# Altium footprint library BM04BGVHSTBLFSN.PcbLib: 1 footprints
Each footprint in its own frame and in the unit in brackets; x right, y up, seen from the top. Pads: shape width x height; smd on the part's side, far side on the other; paste and mask are expansions set on the pad; w line width, h text height; cw(c..) or ccw(c..) is an arc to the next point about the centre after c.
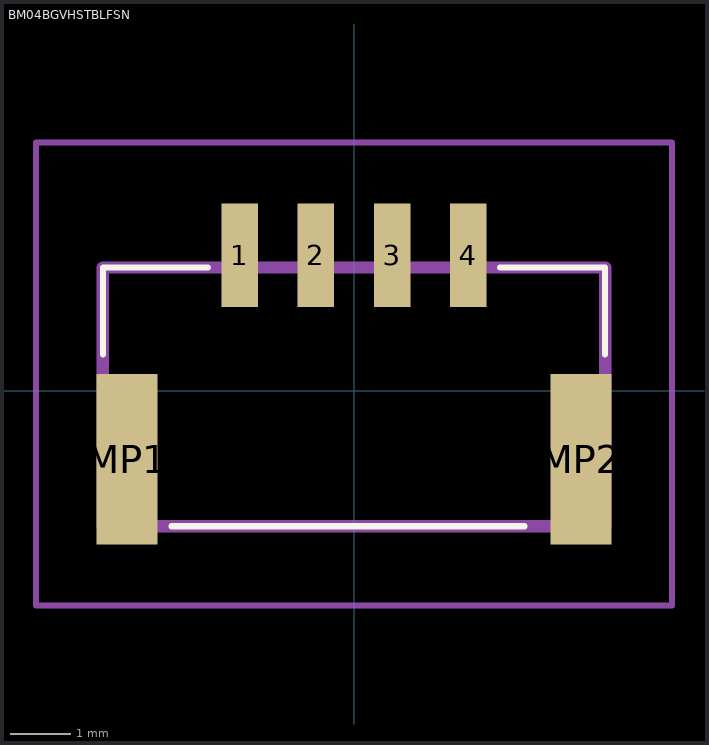
[diagram p0: the footprint, top view; thin cyan lines are the x and y axes]

## BM04BGVHSTBLFSN [mm]
pads (6):
  rect 0.6x1.7 smd: 1(-1.875,2.225) 2(-0.625,2.225) 3(0.625,2.225) 4(1.875,2.225)
  rect 1x2.8 smd: MP1(-3.725,-1.125) MP2(3.725,-1.125)
Top Overlay:
  lines w0.1: -4.125,0.6 -4.125,2.025 -2.4,2.025 ; -3,-2.225 2.8,-2.225 ; 2.4,2.025 4.125,2.025 4.125,0.6
Mechanical 15:
  lines w0.2: -4.125,-2.225 4.125,-2.225 4.125,2.025 -4.125,2.025 -4.125,-2.225
Mechanical 20:
  lines w0.1: -5.225,-3.525 5.225,-3.525 5.225,4.075 -5.225,4.075 -5.225,-3.525